# EAGLE library part THS4120 (library TeensyRF)
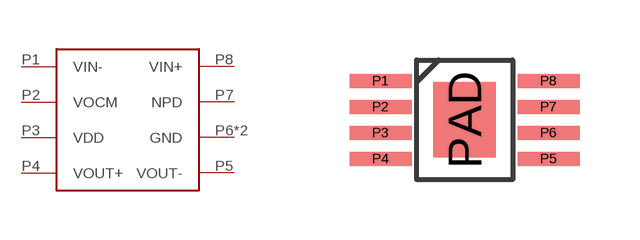
[diagram p0: symbol with the pads of POWERPAD-MSOP-8; footprint POWERPAD-MSOP-8]

Designator prefix -

## THS4120  [POWERPAD-MSOP-8]
P1  VIN-
P2  VOCM
P3  VDD
P4  VOUT+
P5  VOUT-
P6  GND
P7  NPD
P8  VIN+
PAD  GND

## Footprint POWERPAD-MSOP-8 (pad centres in mm)
smd 1.55 x 0.35: P1 -2.1,0.975; P2 -2.1,0.325; P3 -2.1,-0.325; P4 -2.1,-0.975; P5 2.1,-0.975; P6 2.1,-0.325; P7 2.1,0.325; P8 2.1,0.975
smd 1.57 x 1.89: PAD 0,0